# Altium footprint library SM12B-GHS-TB(LF)(SN).PcbLib: 1 footprints
Each footprint in its own frame and in the unit in brackets; x right, y up, seen from the top. Pads: shape width x height; smd on the part's side, far side on the other; paste and mask are expansions set on the pad; w line width, h text height; cw(c..) or ccw(c..) is an arc to the next point about the centre after c.
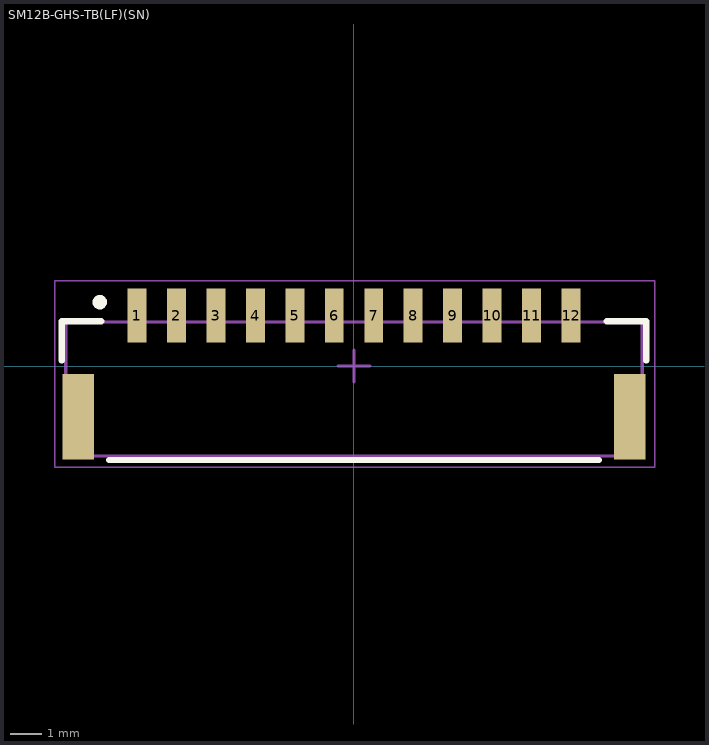
[diagram p0: the footprint, top view; thin cyan lines are the x and y axes]

## SM12B-GHS-TB(LF)(SN) [mm]
pads (14):
  rect 0.6x1.7 smd: 1(-6.875,1.6) 2(-5.625,1.6) 3(-4.375,1.6) 4(-3.125,1.6) 5(-1.875,1.6) 6(-0.625,1.6) 7(0.625,1.6) 8(1.875,1.6) 9(3.125,1.6) 10(4.375,1.6) 11(5.625,1.6) 12(6.875,1.6)
  rect 1x2.7 smd: ""(-8.725,-1.6) ""(8.725,-1.6)
Top Overlay:
  circle w0.254: c-8.05,2.025 r0.1
  lines w0.2: -9.25,0.175 -9.25,1.425 -8,1.425 ; -7.75,-2.975 7.75,-2.975 ; 8,1.425 9.25,1.425 9.25,0.175
Mechanical 1:
  lines w0.1: -9.125,-2.85 -9.125,1.4 9.125,1.4 9.125,-2.85 -9.125,-2.85
  text ".Designator" at -3.374,-1.458 h0.65
Mechanical 2:
  lines w0.05: -9.475,-3.2 9.525,-3.2 9.525,2.7 -9.475,2.7 -9.475,-3.2
  lines w0.1: -0.5,0 0.5,0 ; 0,-0.5 0,0.5
3D body "SM12B-GHS-TB.STEP": height 4.35, standoff 0, extent -9.125,-2.85 9.125,2